# Altium schematic symbol library LM311.SchLib: 1 symbol
Pins are listed as number, name and electrical type; pins without a type are passive.

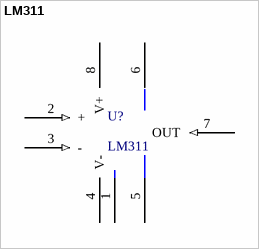
[diagram p0: symbol LM311]

## LM311
designator U?
pins: 1 GND (power), 2 + (in), 3 - (in), 4 V- (power), 5 Balance, 6 Balance, 7 OUT (in), 8 V+ (power)